# EAGLE library part PM-20 (library Power)
MeanWell 20 W Output Switching Power Supply Module
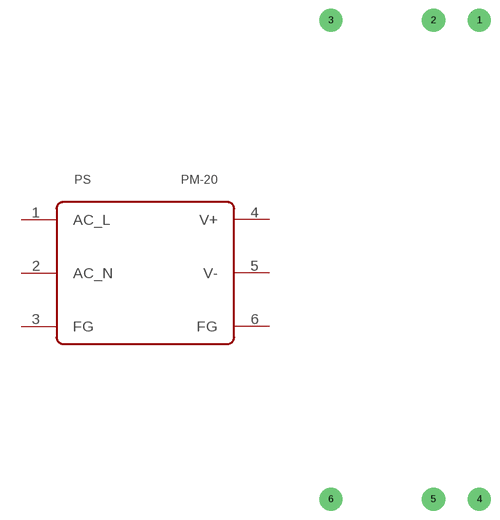
[diagram p2: symbol with the pads of PM-20; footprint PM-20]

Designator prefix PS

## PM-20  [PM-20]
1  AC_L
2  AC_N
3  FG
4  V+
5  V-
6  FG

## Footprint PM-20 (pad centres in mm)
drill 1.5 pad 4: 1 8.035,41.3; 2 0.115,41.3; 3 -17.565,41.3; 4 8.035,-41.3; 5 0.115,-41.3; 6 -17.565,-41.3